# Altium footprint library SON50P250X100X60-10N.PCBLIB: 1 footprints
Each footprint in its own frame and in the unit in brackets; x right, y up, seen from the top. Pads: shape width x height; smd on the part's side, far side on the other; paste and mask are expansions set on the pad; w line width, h text height; cw(c..) or ccw(c..) is an arc to the next point about the centre after c.
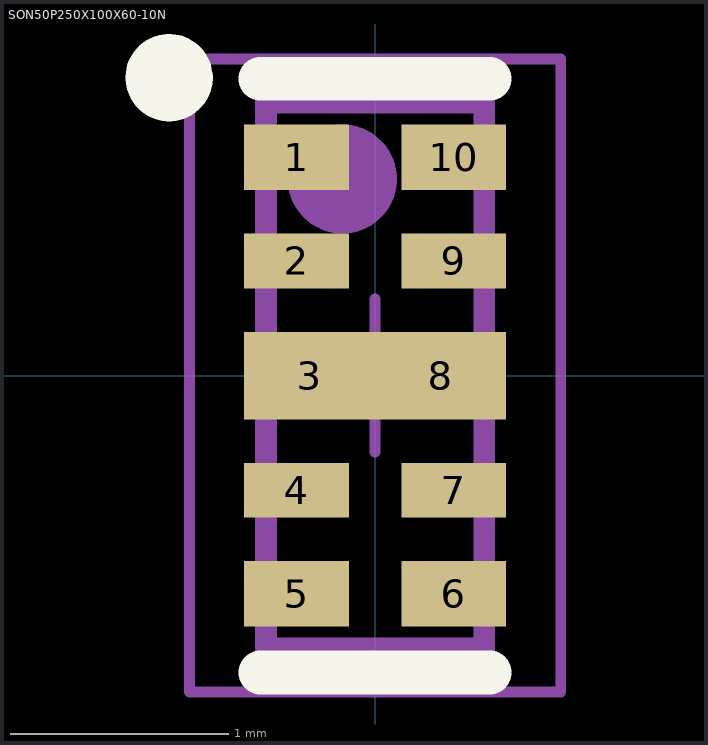
[diagram p0: the footprint, top view; thin cyan lines are the x and y axes]

## SON50P250X100X60-10N [mm] "Small Outline No-Lead (SON), 0.50 mm pitch; 10 pin, 2.50 mm L X 1.00 mm W X 0.60 mm H body"
height 0.6
pads (10):
  rect 0.48x0.3 smd: 1(-0.36,1) 5(-0.36,-1) 6(0.36,-1) 10(0.36,1)
  rect 0.48x0.25 smd: 2(-0.36,0.525) 4(-0.36,-0.525) 7(0.36,-0.525) 9(0.36,0.525)
  rect 0.6x0.4 smd: 3(-0.3,0) 8(0.3,0)
Top Overlay:
  lines w0.2: -0.85,1.4 ccw(c-0.944,1.365) -0.844,1.365 ; -0.525,-1.36 0.525,-1.36 ; -0.525,1.36 0.525,1.36
Top Assembly:
  circle w0.25: c-0.15,0.9 r0.125
  lines w0.1: -0.5,-1.25 -0.5,1.25 0.5,1.25 0.5,-1.25 -0.5,-1.25
Top Courtyard:
  lines w0.05: -0.85,-1.45 -0.85,1.45 0.85,1.45 0.85,-1.45 -0.85,-1.45
Top Designator:
  text ".Designator" at -0.85,-0.825 h0.7
Top Component Center:
  lines w0.05: -0.35,0 0.35,0 ; 0,-0.35 0,0.35
3D body "SON50P250X100X60-10.STEP": height 0.6, standoff 0, extent -0.55,-1.25 0.55,1.25